# EAGLE library part PIC18F26J11 (library My Library)
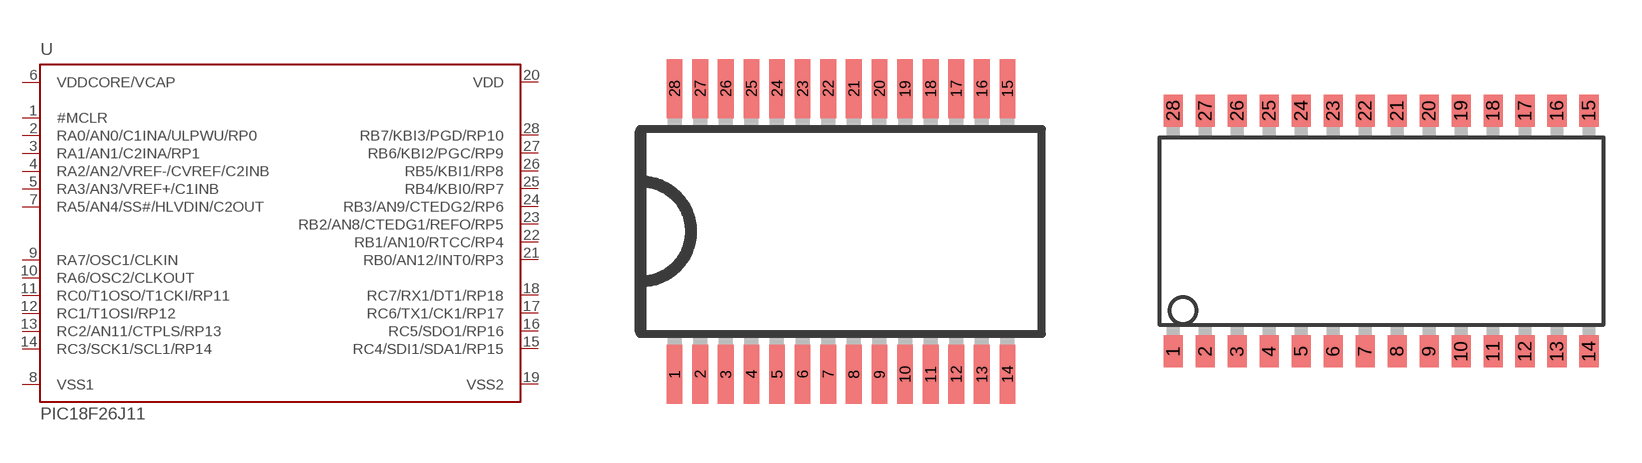
[diagram p26: symbol with the pads of SSOP28; footprints SSOP28, SO28W]

Designator prefix -

## PIC18F26J11SSOP  [SSOP28]
1  #MCLR  in
2  RA0/AN0/C1INA/ULPWU/RP0
3  RA1/AN1/C2INA/RP1
4  RA2/AN2/VREF-/CVREF/C2INB
5  RA3/AN3/VREF+/C1INB
6  VDDCORE/VCAP
7  RA5/AN4/SS#/HLVDIN/C2OUT
8  VSS1  pwr
9  RA7/OSC1/CLKIN
10  RA6/OSC2/CLKOUT
11  RC0/T1OSO/T1CKI/RP11
12  RC1/T1OSI/RP12
13  RC2/AN11/CTPLS/RP13
14  RC3/SCK1/SCL1/RP14
15  RC4/SDI1/SDA1/RP15
16  RC5/SDO1/RP16
17  RC6/TX1/CK1/RP17
18  RC7/RX1/DT1/RP18
19  VSS2  pwr
20  VDD  pwr
21  RB0/AN12/INT0/RP3
22  RB1/AN10/RTCC/RP4
23  RB2/AN8/CTEDG1/REFO/RP5
24  RB3/AN9/CTEDG2/RP6
25  RB4/KBI0/RP7
26  RB5/KBI1/RP8
27  RB6/KBI2/PGC/RP9
28  RB7/KBI3/PGD/RP10

## PIC18F26J11SOIC  [SO28W]
Pads as for SSOP28

## Footprint SSOP28 (pad centres in mm)
Shrink Small Outline Package package type SS
smd 0.4 x 1.5: 1 -4.225,-3.625; 2 -3.575,-3.625; 3 -2.925,-3.625; 4 -2.275,-3.625; 5 -1.625,-3.625; 6 -0.975,-3.625; 7 -0.325,-3.625; 8 0.325,-3.625; 9 0.975,-3.625; 10 1.625,-3.625; 11 2.275,-3.625; 12 2.925,-3.625; 13 3.575,-3.625; 14 4.225,-3.625; 15 4.225,3.625; 16 3.575,3.625; 17 2.925,3.625; 18 2.275,3.625; 19 1.625,3.625; 20 0.975,3.625; 21 0.325,3.625; 22 -0.325,3.625; 23 -0.975,3.625; 24 -1.625,3.625; 25 -2.275,3.625; 26 -2.925,3.625; 27 -3.575,3.625; 28 -4.225,3.625

## Footprint SO28W (pad centres in mm)
28-Lead Plastic Small Outline (SO) Wide, 300 mil Body (SOIC) Source: http://ww1.microchip.com/downloads/en/devicedoc/39632c.pdf
smd 0.762 x 1.27: 1 -7.62,-4.78; 2 -6.35,-4.78; 3 -5.08,-4.78; 4 -3.81,-4.78; 5 -2.54,-4.78; 6 -1.27,-4.78; 7 0,-4.78; 8 1.27,-4.78; 9 2.54,-4.78; 10 3.81,-4.78; 11 5.08,-4.78; 12 6.35,-4.78; 13 7.62,-4.78; 14 8.89,-4.78; 15 8.89,4.78; 16 7.62,4.78; 17 6.35,4.78; 18 5.08,4.78; 19 3.81,4.78; 20 2.54,4.78; 21 1.27,4.78; 22 0,4.78; 23 -1.27,4.78; 24 -2.54,4.78; 25 -3.81,4.78; 26 -5.08,4.78; 27 -6.35,4.78; 28 -7.62,4.78